# Altium footprint library lib_wima.PcbLib: 2 footprints
Each footprint in its own frame and in the unit in brackets; x right, y up, seen from the top. Pads: shape width x height; smd on the part's side, far side on the other; paste and mask are expansions set on the pad; w line width, h text height; cw(c..) or ccw(c..) is an arc to the next point about the centre after c.
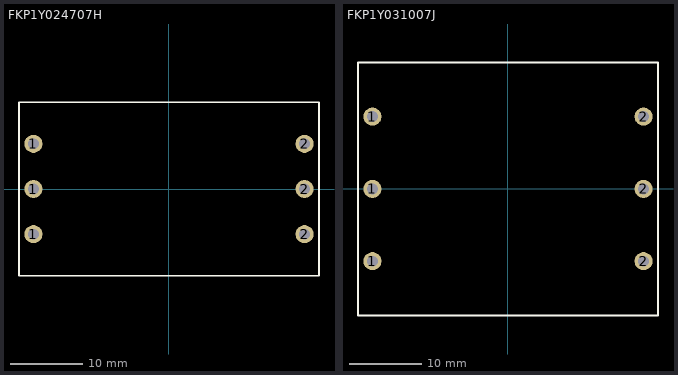
[diagram p0: the footprints below, top view; thin cyan lines are the x and y axes]

## FKP1Y024707H [mm]
pads (6):
  round 2.5 hole 1.5: 1(-18.75,-6.25) 1(-18.75,0) 1(-18.75,6.25) 2(18.75,-6.25) 2(18.75,0) 2(18.75,6.25)
Top Overlay:
  lines w0.254: -20.75,-12 20.75,-12 20.75,12 -20.75,12 -20.75,-12
3D body "FKP1Y024707H.step": height 45.5, standoff -6, extent -20.75,-12 20.75,12

## FKP1Y031007J [mm]
pads (6):
  round 2.5 hole 1.5: 1(-18.75,-10) 1(-18.75,0) 1(-18.75,10) 2(18.75,-10) 2(18.75,0) 2(18.75,10)
Top Overlay:
  lines w0.254: -20.75,-17.526 -20.75,17.5 20.75,17.5 20.75,-17.526 -20.75,-17.526
3D body "FKP1Y031007J.step": height 50, standoff -6, extent -20.75,-17.5 20.75,17.5